# Altium schematic symbol library Radial Inductors.SchLib: 2 symbols
Pins are listed as number, name and electrical type; pins without a type are passive.

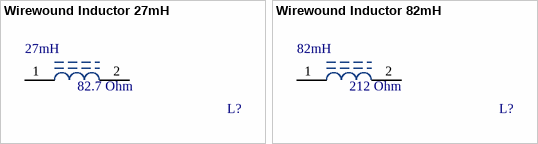
[diagram p0: symbols Wirewound Inductor 27mH to Wirewound Inductor 82mH]

## Wirewound Inductor 27mH
designator L?  Inductance: 27mH  Resistence: 82.7 Ohm  (hidden comment: Wirewound Inductor 27mH)
27mH Unshielded Wirewound Inductor 100mA 82.7 Ohm Max Radial; Manufacturer 1: Bourns Inc.; Manufacturer 1 PN: RLB9012-273KL; ComponentLink1Description: Datasheet; ComponentLink1URL: https://www.tdk-electronics.tdk.com/inf/30/db/ind_2008/b82144a.pdf; Digikey PN: RLB9012-273KL-ND; Mouser PN: 652-RLB9012-273KL; Current: 100mA
footprint Wirewound Inductor 27mH (27mH Unshielded Wirewound Inductor 100mA 82.7 Ohm Max Radial)
pins: 1 (power), 2 (power)

## Wirewound Inductor 82mH
designator L?  Inductance: 82mH  Resistence: 212 Ohm  (hidden comment: Wirewound Inductor 82mH)
82mH Unshielded Wirewound Inductor 40mA 212 Ohm Radial, Vertical Cylinder; Manufacturer 1: Bourns Inc.; Manufacturer 1 PN: RLB0913-823K; ComponentLink1Description: Datasheet; ComponentLink1URL: https://www.tdk-electronics.tdk.com/inf/30/db/ind_2008/b82144a.pdf; Digikey PN: RLB0913-823K-ND; Mouser PN: 652-RLB0913-823K; Current: 40mA
footprint Wirewound Inductor 82mH (82mH Unshielded Wirewound Inductor 40mA 212 Ohm Radial, Vertical Cylinder)
pins: 1 (power), 2 (power)